# Altium footprint library JACK35MMRAPC4BH3.PcbLib: 1 footprints
Each footprint in its own frame and in the unit in brackets; x right, y up, seen from the top. Pads: shape width x height; smd on the part's side, far side on the other; paste and mask are expansions set on the pad; w line width, h text height; cw(c..) or ccw(c..) is an arc to the next point about the centre after c.
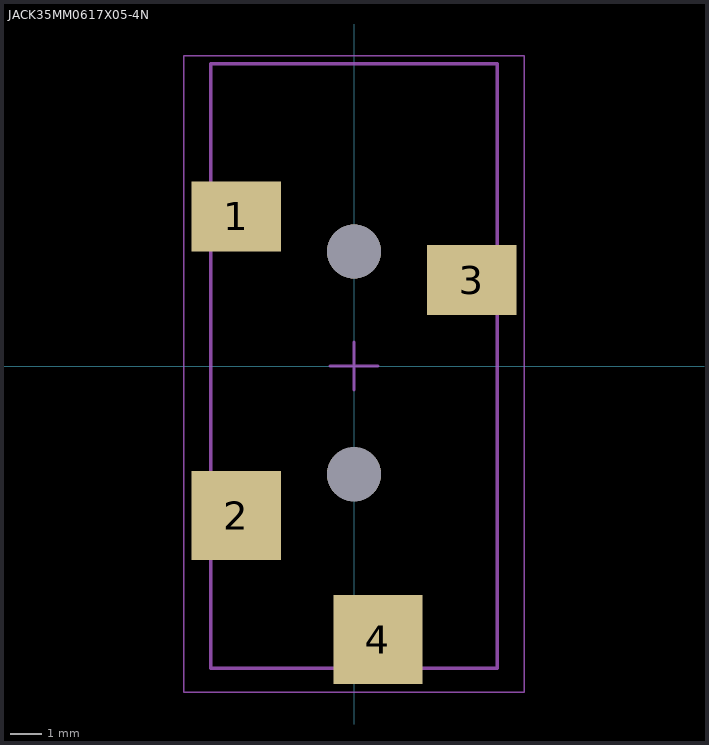
[diagram p0: the footprint, top view; thin cyan lines are the x and y axes]

## JACK35MM0617X05-4N [mm]
pads (6):
  rect 2.8x2.2 smd: 1(-3.7,4.7) 3(3.7,2.7)
  rect 2.8x2.8 smd: 2(-3.7,-4.7) 4(0.75,-8.6)
  round 1.7 hole 1.7 unplated: ""(0,-3.4) ""(0,3.6)
Mechanical 6:
  text ".Designator" at 0.3,-0.725 h0.6
Mechanical 8:
  lines w0.05: -5.35,-10.25 -5.35,3.6 -5.35,9.75 5.35,9.75 5.35,-10.25 -5.35,-10.25
Mechanical 13:
  lines w0.1: -4.5,-9.5 4.5,-9.5 4.5,9.5 -4.5,9.5 -4.5,-9.5
Mechanical 15:
  lines w0.05: -5.35,-10.25 5.35,-10.25 5.35,9.75 -5.35,9.75 -5.35,3.6 -5.35,-10.25
  lines w0.1: -0.75,0 0,0 ; 0,-0.75 0,0 ; 0,0.75 0,0 ; 0.75,0 0,0
3D body "sj-3524-smt-gr.stp": height 5.1, standoff -0.7, extent -4.5,-9.5 4.5,9.5